# Altium footprint library SIP6_2_2MM.PcbLib: 1 footprints
Each footprint in its own frame and in the unit in brackets; x right, y up, seen from the top. Pads: shape width x height; smd on the part's side, far side on the other; paste and mask are expansions set on the pad; w line width, h text height; cw(c..) or ccw(c..) is an arc to the next point about the centre after c.
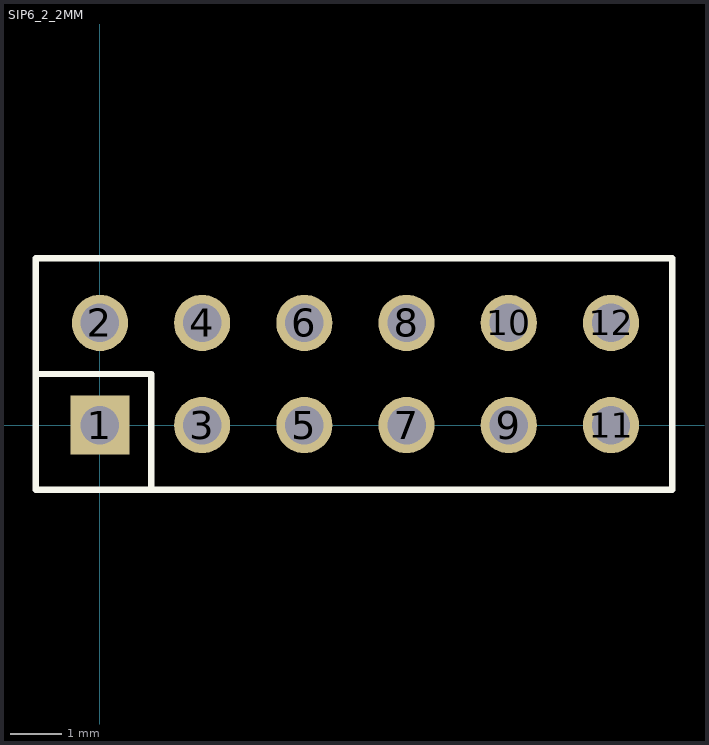
[diagram p0: the footprint, top view; thin cyan lines are the x and y axes]

## SIP6_2_2MM [mm]
pads (12):
  rect 1.15x1.15 hole 0.75: 1(0,0)
  round 1.1 hole 0.75: 2(0,2) 3(2,0) 4(2,2) 5(4,0) 6(4,2) 7(6,0) 8(6,2) 9(8,0) 10(8,2) 11(10,0) 12(10,2)
Top Overlay:
  lines w0.127: -1.254,1 1,1 1,-1.254 ; -1.254,-1.267 -1.254,3.267 11.196,3.267 11.196,-1.267 -1.254,-1.267
3D body "MTMM-106-07-G-D-280.stp": height 8.61, standoff -2.97, extent -1.011,-0.952 10.989,2.985